# Altium integrated library 1935161.IntLib: 2 symbols
Pins are listed as number, name and electrical type; pins without a type are passive.

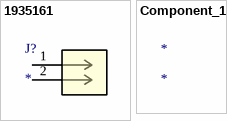
[diagram p0: symbols 1935161 to Component_1]

## 1935161
designator J?
No Description Available; Mfr_Name: Phoenix Contact; RefDes: RefDes; Type: Type
footprint CONN_1935161_PXC
pins: 1, 2

## Component_1
designator *